# EAGLE library part SC4541 (library ic-Semtech)
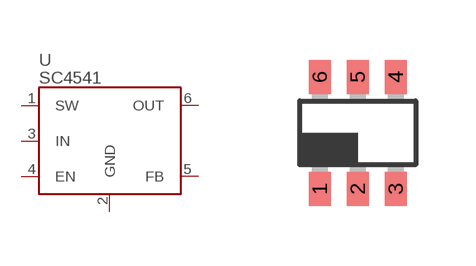
[diagram p2: symbol with the pads of SOT23-6; footprint SOT23-6]

Designator prefix U

## SC4541  [SOT23-6]
1  SW
2  GND
3  IN
4  EN
5  FB
6  OUT

## Footprint SOT23-6 (pad centres in mm)
smd 0.55 x 0.85: 1 -0.95,-1.4; 2 0,-1.4; 3 0.95,-1.4; 4 0.95,1.4; 5 0,1.4; 6 -0.95,1.4